# Altium integrated library SMD-RES-10K-5_-1__0402_.IntLib: 1 symbol
Pins are listed as number, name and electrical type; pins without a type are passive.

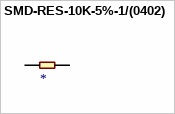
[diagram p0: symbol SMD-RES-10K-5%-1/(0402)]

## SMD-RES-10K-5%-1/(0402)
designator ?
10 kOhms Â±5% 0.063W, 1/16W Chip Resistor 0402 (1005 Metric) Moisture Resistant Thick Film; MP: RC0402JR-0710KL; MF: Yageo; Package: 0402 Yageo; Mouser-Purchase-URL: https://snapeda.com/shop?store=Mouser&id=52419; SnapEDA_Link: https://www.snapeda.com/parts/RC0402JR-0710KL/Yageo/view-part/52419/?ref=snap; Availability: Unavailable; Price: None; Value: *; DigiKey-Purchase-URL: https://snapeda.com/shop?store=DigiKey&id=52419
footprint R0402
pins: 1, 2